# Altium footprint library TO-252.PcbLib: 1 footprints
Each footprint in its own frame and in the unit in brackets; x right, y up, seen from the top. Pads: shape width x height; smd on the part's side, far side on the other; paste and mask are expansions set on the pad; w line width, h text height; cw(c..) or ccw(c..) is an arc to the next point about the centre after c.
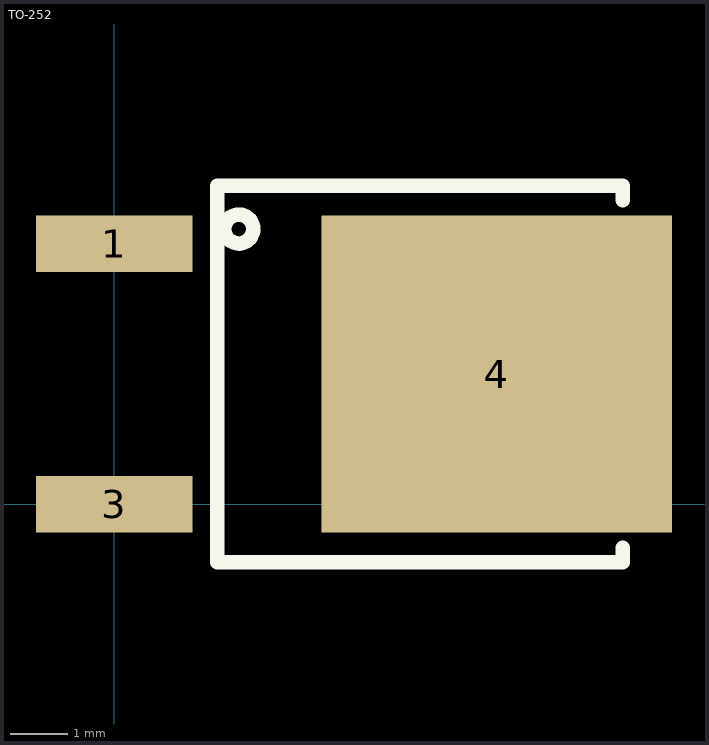
[diagram p0: the footprint, top view; thin cyan lines are the x and y axes]

## TO-252 [mil]
pads (3):
  rect 108x39 smd: 1(0,180) 3(0,0)
  rect 242x219 smd: 4(264,90)
Top Overlay:
  circle w10: c86,190 r10
  lines w10: 351,-30 351,-40 71,-40 71,220 351,220 351,210
Mechanical 15:
  lines w0.1: 179.5,94 181.5,96